# Altium integrated library Free Documents.IntLib: 34 symbols
Pins are listed as number, name and electrical type; pins without a type are passive.

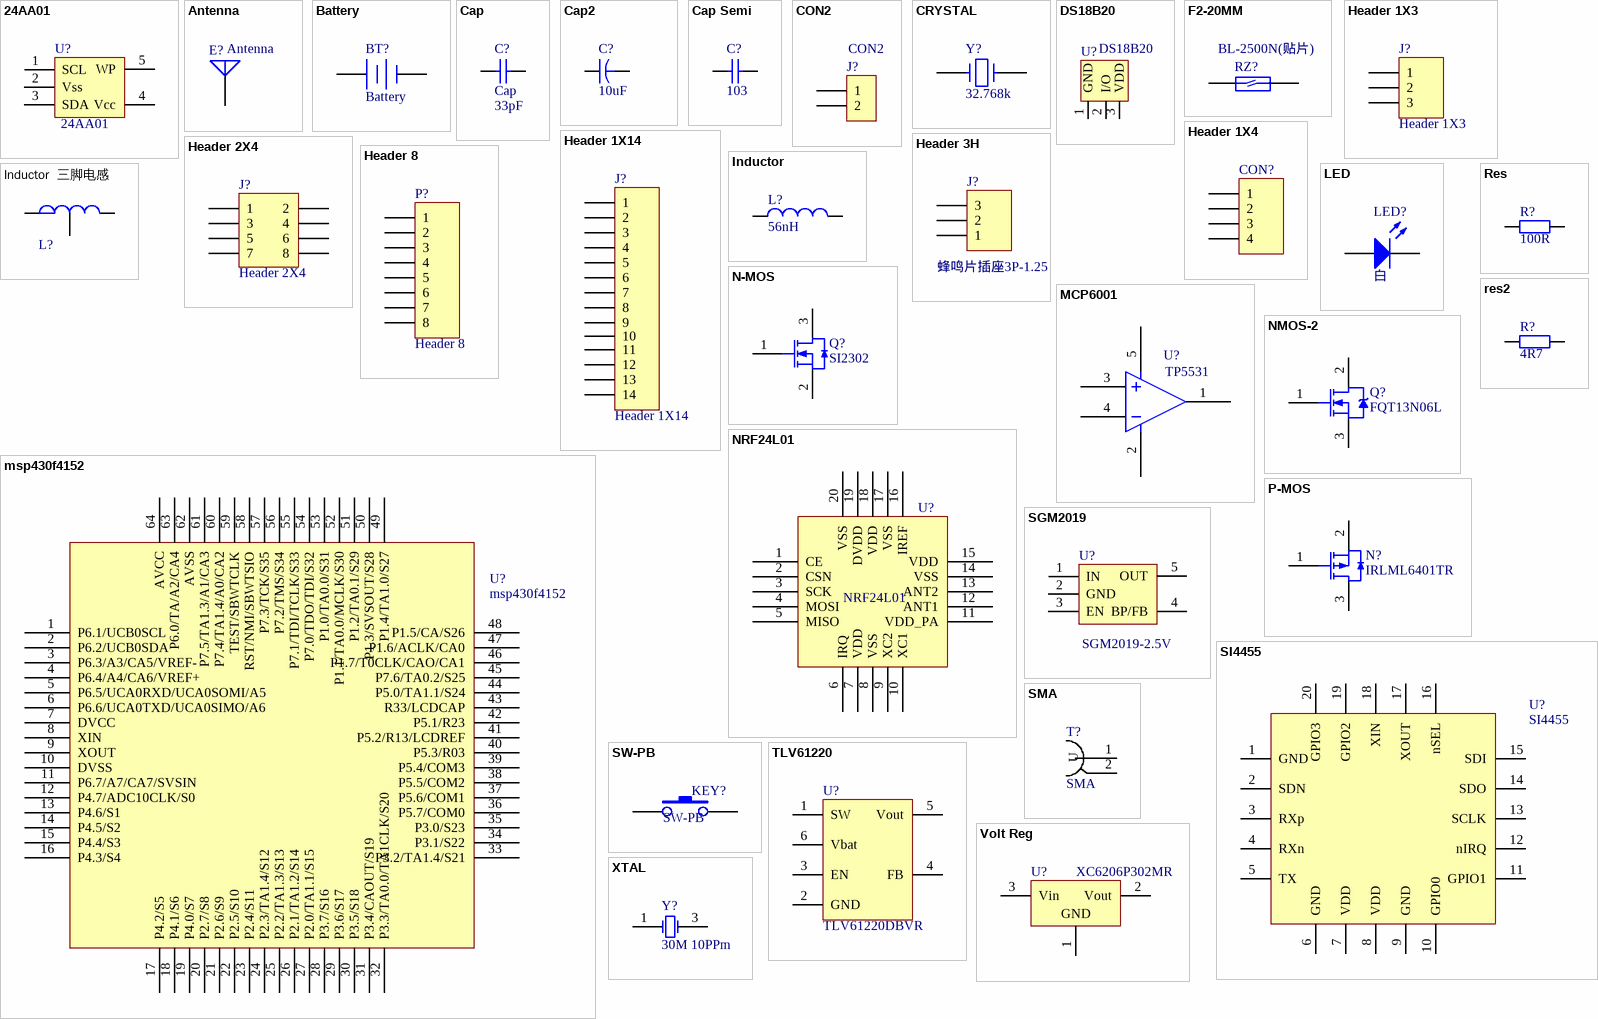
[diagram p0: symbols 24AA01 to XTAL]

## 24AA01
designator U?
footprint SOT23-5 (24AA01(microchip))
pins: 1 SCL, 2 Vss, 3 SDA, 4 Vcc, 5 WP
2 alternate drawings of the same symbol

## Antenna
designator E?
Generic Antenna; Published: 24-Mar-1999; LatestRevisionDate: 17-Jul-2002; LatestRevisionNote: Re-released for DXP Platform.; PackageReference: PIN1; Publisher: Altium Limited
footprint PIN1 (Footprint not found)
pins: 1 A

## Battery
designator BT?
footprint HDR1X2 (Connector; Header; 2 Position)
pins: 1 +, 2 -

## Cap
designator C?  value 33pF
Capacitor; Published: 8-Jun-2000; LatestRevisionDate: 17-Jul-2002; LatestRevisionNote: Re-released for DXP Platform.; PackageReference: RAD-0.3; Publisher: Altium Limited
footprint 0603 (CAP)
footprint CAPR2.54-5.1x3.2 (Capacitor, Ceramic, Thru-Hole, Dipped Radial; Body 5.1 x 3.2 mm (WxT) Pin Spacing 2.54 mm (typ))
footprint CAPR5.08-7.8x3.2 (Capacitor, Ceramic, Thru-Hole, Dipped Radial; Body 7.8 x 3.2 mm (WxT) Pin Spacing 5.08 mm (typ))
simulation model CAP (Capacitor)
signal-integrity model Cap
pins: 1, 2

## Cap2
designator C?, comment 10uF
Capacitor; Value: 100pF; Published: 23-Sep-2002; PackageReference: CAPR5-4X5; Publisher: Altium Limited
footprint 0603
simulation model CAP (Capacitor)
signal-integrity model Cap
pins: 1, 2

## Cap Semi
designator C?, comment value 103  (hidden comment: 104)
Capacitor (Semiconductor SIM Model); Published: 8-Jun-2000; LatestRevisionDate: 29-May-2009; LatestRevisionNote: IPC-7351 Footprint Added.; PackageReference: C1206; Publisher: Altium Limited; PackageDescription: Chip Capacitor
footprint 0603 (CAP)
footprint CAPC1005L
footprint CAPC2512L
footprint CAPC1608L
pins: 1, 2
2 alternate drawings of the same symbol

## CON2
designator J?
Connector
footprint 2P-2-V
pins: 1, 2

## CRYSTAL
designator Y?, comment 32.768k
Crystal 8MHz PLUG; Value: 8MHz
footprint CR0.2 (Footprint not found)
footprint XTAL-STM
footprint FC-135
pins: 1, 2
2 alternate drawings of the same symbol

## DS18B20
designator U?
footprint 3P-EH-V (Connector; Header; 3 Position)
pins: 1 GND, 2 I/O, 3 VDD

## F2-20MM
designator RZ?, comment BL-2500N(贴片)
ci huang switch
footprint ShakeKey (震动开关)
pins: 1 "switch ci huang", 2 "switch ci huang"

## Header 1X3
designator J?
footprint 2N1_PAD (2选1)
pins: 1, 2, 3

## Header 1X4
designator CON?  (value not drawn)
footprint Header 1X4
footprint AirPressure_PAD
pins: 1, 2, 3, 4

## Header 1X14
designator J?
footprint FPC-0.8-14P
pins: 1, 2, 3, 4, 5, 6, 7, 8, 9, 10, 11, 12, 13, 14

## Header 2X4
designator J?
footprint Header 2X4
pins: 1, 2, 3, 4, 5, 6, 7, 8

## Header 3H
designator J?, comment 蜂鸣片插座3P-1.25
Header, 3-Pin, Right Angle; LatestRevisionDate: 17-Jul-2002; LatestRevisionNote: Re-released for DXP Platform.; Publisher: Altium Limited
footprint 3P-EH-V (Connector; Header; 3 Position)
signal-integrity model Connector
pins: 1, 2, 3

## Header 8
designator P?
Header, 8-Pin; LatestRevisionDate: 17-Jul-2002; LatestRevisionNote: Re-released for DXP Platform.; Publisher: Altium Limited
footprint HDR1X8 (Connector; Header; 8 Position)
signal-integrity model Connector
pins: 1, 2, 3, 4, 5, 6, 7, 8

## Inductor
designator L?  value 56nH  (hidden comment: Inductor)
Code_IEC: 1005; Published: 8-Jun-2000; LatestRevisionDate: 29-May-2009; LatestRevisionNote: IPC-7351 Footprint Added.; PackageReference: 0402-A; Publisher: Altium Limited; PackageDescription: Chip Inductor; Code_JEITA: 0402
footprint 0603 (CAP)
footprint INDC1608L (Chip Inductor, Body 1.6x0.8mm, IPC High Density)
footprint INDC2012L (Chip Inductor, Body 2.0x1.2mm, IPC High Density)
footprint INDC0603L (Chip Inductor, Body 0.6x0.3mm, IPC High Density)
footprint INDC3216AL (Chip Inductor, Body 3.2x1.6mm, IPC High Density)
footprint INDC4532L (Chip Inductor, Body 4.5x3.2mm, IPC High Density)
simulation model INDUCTOR (Inductor)
signal-integrity model Inductor
pins: 1, 2

## Inductor  三脚电感
designator L?  (value not drawn)
footprint Inductor threeP (三脚电感)
pins: 1, 2, 3

## LED
designator LED?, comment 白
Typical INFRARED GaAs LED; Published: 8-Jun-2000; LatestRevisionDate: 08-Jul-2005; LatestRevisionNote: Mech Layer 1 removed.; PackageReference: LED-0; Publisher: Altium Limited
footprint LED_3MM (Footprint not found)
footprint LED_5MM (Footprint not found)
footprint D1206 (LED)
pins: 1 A, 2 K

## MCP6001
designator U?, comment TP5531
footprint SOT23-5 (24AA01(microchip))
pins: 1, 2, 3, 4, 5

## msp430f4152
designator U?
footprint LQFP64-M
pins: 1 P6.1/UCB0SCL, 2 P6.2/UCB0SDA, 3 P6.3/A3/CA5/VREF-, 4 P6.4/A4/CA6/VREF+, 5 P6.5/UCA0RXD/UCA0SOMI/A5, 6 P6.6/UCA0TXD/UCA0SIMO/A6, 7 DVCC, 8 XIN, 9 XOUT, 10 DVSS, 11 P6.7/A7/CA7/SVSIN, 12 P4.7/ADC10CLK/S0, 13 P4.6/S1, 14 P4.5/S2, 15 P4.4/S3, 16 P4.3/S4, 17 P4.2/S5, 18 P4.1/S6, 19 P4.0/S7, 20 P2.7/S8, 21 P2.6/S9, 22 P2.5/S10, 23 P2.4/S11, 24 P2.3/TA1.4/S12, 25 P2.2/TA1.3/S13, 26 P2.1/TA1.2/S14, 27 P2.0/TA1.1/S15, 28 P3.7/S16, 29 P3.6/S17, 30 P3.5/S18, 31 P3.4/CAOUT/S19, 32 P3.3/TA0.0/TA1CLK/S20, 33 P3.2/TA1.4/S21, 34 P3.1/S22, 35 P3.0/S23, 36 P5.7/COM0, 37 P5.6/COM1, 38 P5.5/COM2, 39 P5.4/COM3, 40 P5.3/R03, 41 P5.2/R13/LCDREF, 42 P5.1/R23, 43 R33/LCDCAP, 44 P5.0/TA1.1/S24, 45 P7.6/TA0.2/S25, 46 P1.7/T0CLK/CAO/CA1, 47 P1.6/ACLK/CA0, 48 P1.5/CA/S26, 49 P1.4/TA1.0/S27, 50 P1.3/SVSOUT/S28, 51 P1.2/TA0.1/S29, 52 P1.1/TA0.0/MCLK/S30, 53 P1.0/TA0.0/S31, 54 P7.0/TDO/TDI/S32, 55 P7.1/TDI/TCLK/S33, 56 P7.2/TMS/S34, 57 P7.3/TCK/S35, 58 RST/NMI/SBWTSIO, 59 TEST/SBWTCLK, 60 P7.4/TA1.4/A0/CA2, 61 P7.5/TA1.3/A1/CA3, 62 AVSS, 63 P6.0/TA/A2/CA4, 64 AVCC
2 alternate drawings of the same symbol

## N-MOS
designator Q?  value SI2302  (hidden comment: N-MOS)
footprint SOT23-3
pins: 1 G, 2 S, 3 D

## NMOS-2
designator Q?, comment FQT13N06L
N-Channel Power MOSFET; Note: Pin 2 is electrically connected to pin 4.; Published: 8-Jun-2000; LatestRevisionDate: 17-Jul-2002; LatestRevisionNote: Re-released for DXP Platform.; DatasheetDocument: PD-9.814; PackageReference: TO-220AB; Publisher: Altium Limited; Code_JEDEC: TO-220-AB; ComponentLink1Description: Manufacturer Link; ComponentLink1URL: http://www.irf.com/
footprint SOT223 (SOT-223/SC-73; 4 Leads; Body 6.7 x 7.3 mm, inc. leads (LxW max))
simulation model IRF1010 (Spice Subcircuit)
pins: 1 G, 2 D, 3 S

## NRF24L01
designator U?
footprint LC-QFN-20_4x4x05P
pins: 1 CE, 2 CSN, 3 SCK, 4 MOSI, 5 MISO, 6 IRQ, 7 VDD, 8 VSS, 9 XC2, 10 XC1, 11 VDD_PA, 12 ANT1, 13 ANT2, 14 VSS, 15 VDD, 16 IREF, 17 VSS, 18 VDD, 19 DVDD, 20 VSS

## P-MOS
designator N?  value IRLML6401TR  (hidden comment: P-MOS)
footprint SOT23-3
pins: 1 G, 2 S, 3 D

## Res
designator R?, comment 100R
Resistor; Value: 330; Published: 8-Jun-2000; LatestRevisionDate: 17-Jul-2002; LatestRevisionNote: Re-released for DXP Platform.; PackageReference: AXIAL-0.4; Publisher: Altium Limited
footprint 0805R
simulation model RESISTOR (Resistor)
signal-integrity model Res
footprint AXIAL-0.4 (Resistor; 2 Leads)
footprint AXIAL-0.3 (Resistor; 2 Leads)
footprint AXIAL-0.5 (Semiconductor Resistor; 2 Leads)
footprint AXIAL-0.6 (Variable Resistor; 2 Leads)
footprint AXIAL-0.7 (Variable Resistor; 2 Leads)
footprint AXIAL-0.8 (Adjustable Inductor; 2 Leads)
footprint AXIAL-0.9 (Magnetic-Core Inductor; 2 Leads)
footprint AXIAL-1.0 (Adjustable Magnetic-Core Inductor; 2 Leads)
footprint 0603R
footprint 1206R (Footprint not found)
footprint AXIAL
footprint RC0402
pins: 1, 2

## res2
designator R?, comment 4R7
Resistor; Manufacturer: Generic Components; Class: Passive; Value: 10M; Published: 08/06/2000; Publisher: Altium Hobart Technology Centre; SubClass: Resistor
footprint AXIAL-0.4
footprint RB7.6-15
footprint R0805-B
footprint R0805
footprint R0805B
footprint R0603B
footprint RC0603_B
footprint R0805
footprint RC0402
pins: 1, 2

## SGM2019
designator U?, comment SGM2019-2.5V
footprint SC70-5 (SGM2019)
pins: 1 IN, 2 GND, 3 EN, 4 BP/FB, 5 OUT
2 alternate drawings of the same symbol

## SI4455
designator U?
SILICON
footprint LC-QFN-20_4x4x05P
pins: 1 GND, 2 SDN, 3 RXp, 4 RXn, 5 TX, 6 GND, 7 VDD, 8 VDD, 9 GND, 10 GPIO0, 11 GPIO1, 12 nIRQ, 13 SCLK, 14 SDO, 15 SDI, 16 nSEL, 17 XOUT, 18 XIN, 19 GPIO2, 20 GPIO3

## SMA
designator T?
footprint 2P-2-V
pins: 1, 2
text: U

## SW-PB
designator KEY?
footprint Key_SMT
pins: 1, 2

## TLV61220
designator U?, comment TLV61220DBVR
footprint SOT23-6
pins: 1 SW, 2 GND, 3 EN, 4 FB, 5 Vout, 6 Vbat

## Volt Reg
designator U?, comment XC6206P302MR
Voltage Regulator; Published: 24-Mar-1999; LatestRevisionDate: 29-May-2009; LatestRevisionNote: IPC-7351 Footprint Added.; PackageReference: D2PAK; Publisher: Altium Limited; PackageDescription: 3-Pin Transistor Outline Package 2.54 mm Pitch, 15.1 mm Lead Span
footprint SOT23-3
footprint TO254P1510-3_4L (D2-PAK, 4-Leads, Body 8.8x10.4mm, Pitch 2.54mm, Lead Span 15.1mm, IPC High Density)
footprint TO254P1510-3_4M (D2-PAK, 4-Leads, Body 8.8x10.4mm, Pitch 2.54mm, Lead Span 15.1mm, IPC Low Density)
pins: 1 GND, 2 Vout, 3 Vin

## XTAL
designator Y?, comment 30M 10PPm
Crystal Oscillator; Published: 8-Jun-2000; LatestRevisionDate: 17-Jul-2002; LatestRevisionNote: Re-released for DXP Platform.; PackageReference: R38; Publisher: Altium Limited
footprint CY3225
simulation model XTAL (Spice Subcircuit)
pins: 1 OSC1, 3 OSC2